# Altium schematic symbol library MAX485.SchLib: 1 symbol
Pins are listed as number, name and electrical type; pins without a type are passive.

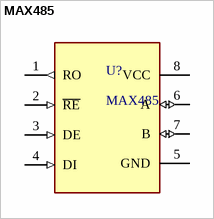
[diagram p0: symbol MAX485]

## MAX485
designator U?
footprint SOIC-8-MFG
footprint SOIC-8-A
footprint SOIC-8-B
footprint SOIC-8-C
pins: 1 RO (out), 2 ~{RE} (in), 3 DE (in), 4 DI (in), 5 GND (power), 6 A (io), 7 B (io), 8 VCC (power)